# EAGLE library part STM32F301_302KXU (library STM32F3xx)
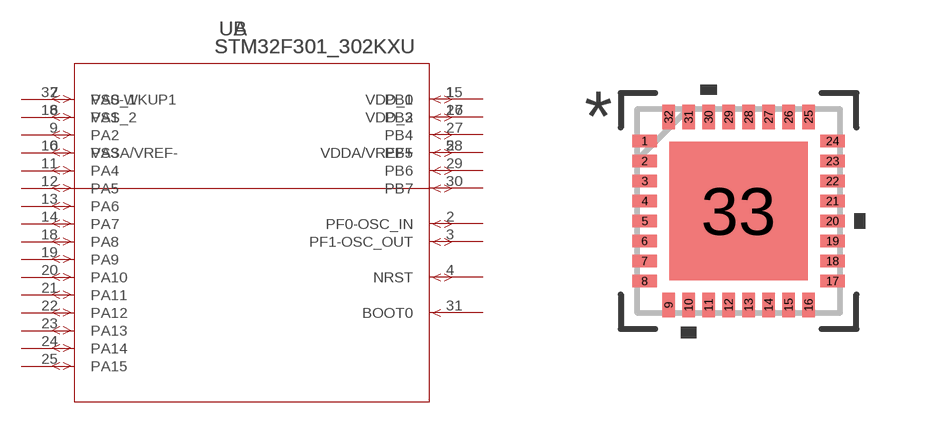
[diagram p2: symbol with the pads of UFQFPN32-5X5MM; footprint UFQFPN32-5X5MM]

Designator prefix U; gates A=STM32F301_302KXU_1 B=STM32F301_302KXU

## STM32F301_302KXU (COPYRIGHT: Copyright C 2016 Accelerated Designs. All rights reserved; MANUFACTURER_PART_NUMBER: stm32f301_302kxu; VENDOR: STMicroelectronics)  [UFQFPN32-5X5MM]
1  B:VDD_1  pwr
2  A:PF0-OSC_IN
3  A:PF1-OSC_OUT
4  A:NRST
5  B:VDDA/VREF+  pwr
6  B:VSSA/VREF-  pwr
7  A:PA0-WKUP1
8  A:PA1
9  A:PA2
10  A:PA3
11  A:PA4
12  A:PA5
13  A:PA6
14  A:PA7
15  A:PB0
16  B:VSS_2  pwr
17  B:VDD_2  pwr
18  A:PA8
19  A:PA9
20  A:PA10
21  A:PA11
22  A:PA12
23  A:PA13
24  A:PA14
25  A:PA15
26  A:PB3
27  A:PB4
28  A:PB5
29  A:PB6
30  A:PB7
31  A:BOOT0  in
32  B:VSS_1  pwr

## Footprint UFQFPN32-5X5MM (pad centres in mm)
smd 0.61 x 0.305: 1 -2.35,1.75; 2 -2.35,1.25; 3 -2.35,0.75; 4 -2.35,0.25; 5 -2.35,-0.25; 6 -2.35,-0.75; 7 -2.35,-1.25; 8 -2.35,-1.75; 17 2.35,-1.75; 18 2.35,-1.25; 19 2.35,-0.75; 20 2.35,-0.25; 21 2.35,0.25; 22 2.35,0.75; 23 2.35,1.25; 24 2.35,1.75
smd 0.305 x 0.61: 9 -1.75,-2.35; 10 -1.25,-2.35; 11 -0.75,-2.35; 12 -0.25,-2.35; 13 0.25,-2.35; 14 0.75,-2.35; 15 1.25,-2.35; 16 1.75,-2.35; 25 1.75,2.35; 26 1.25,2.35; 27 0.75,2.35; 28 0.25,2.35; 29 -0.25,2.35; 30 -0.75,2.35; 31 -1.25,2.35; 32 -1.75,2.35
smd 3.454 x 3.454: 33 0,0